# Altium schematic symbol library TexasInstrumentsG.SchLib: 9 symbols
Pins are listed as number, name and electrical type; pins without a type are passive.

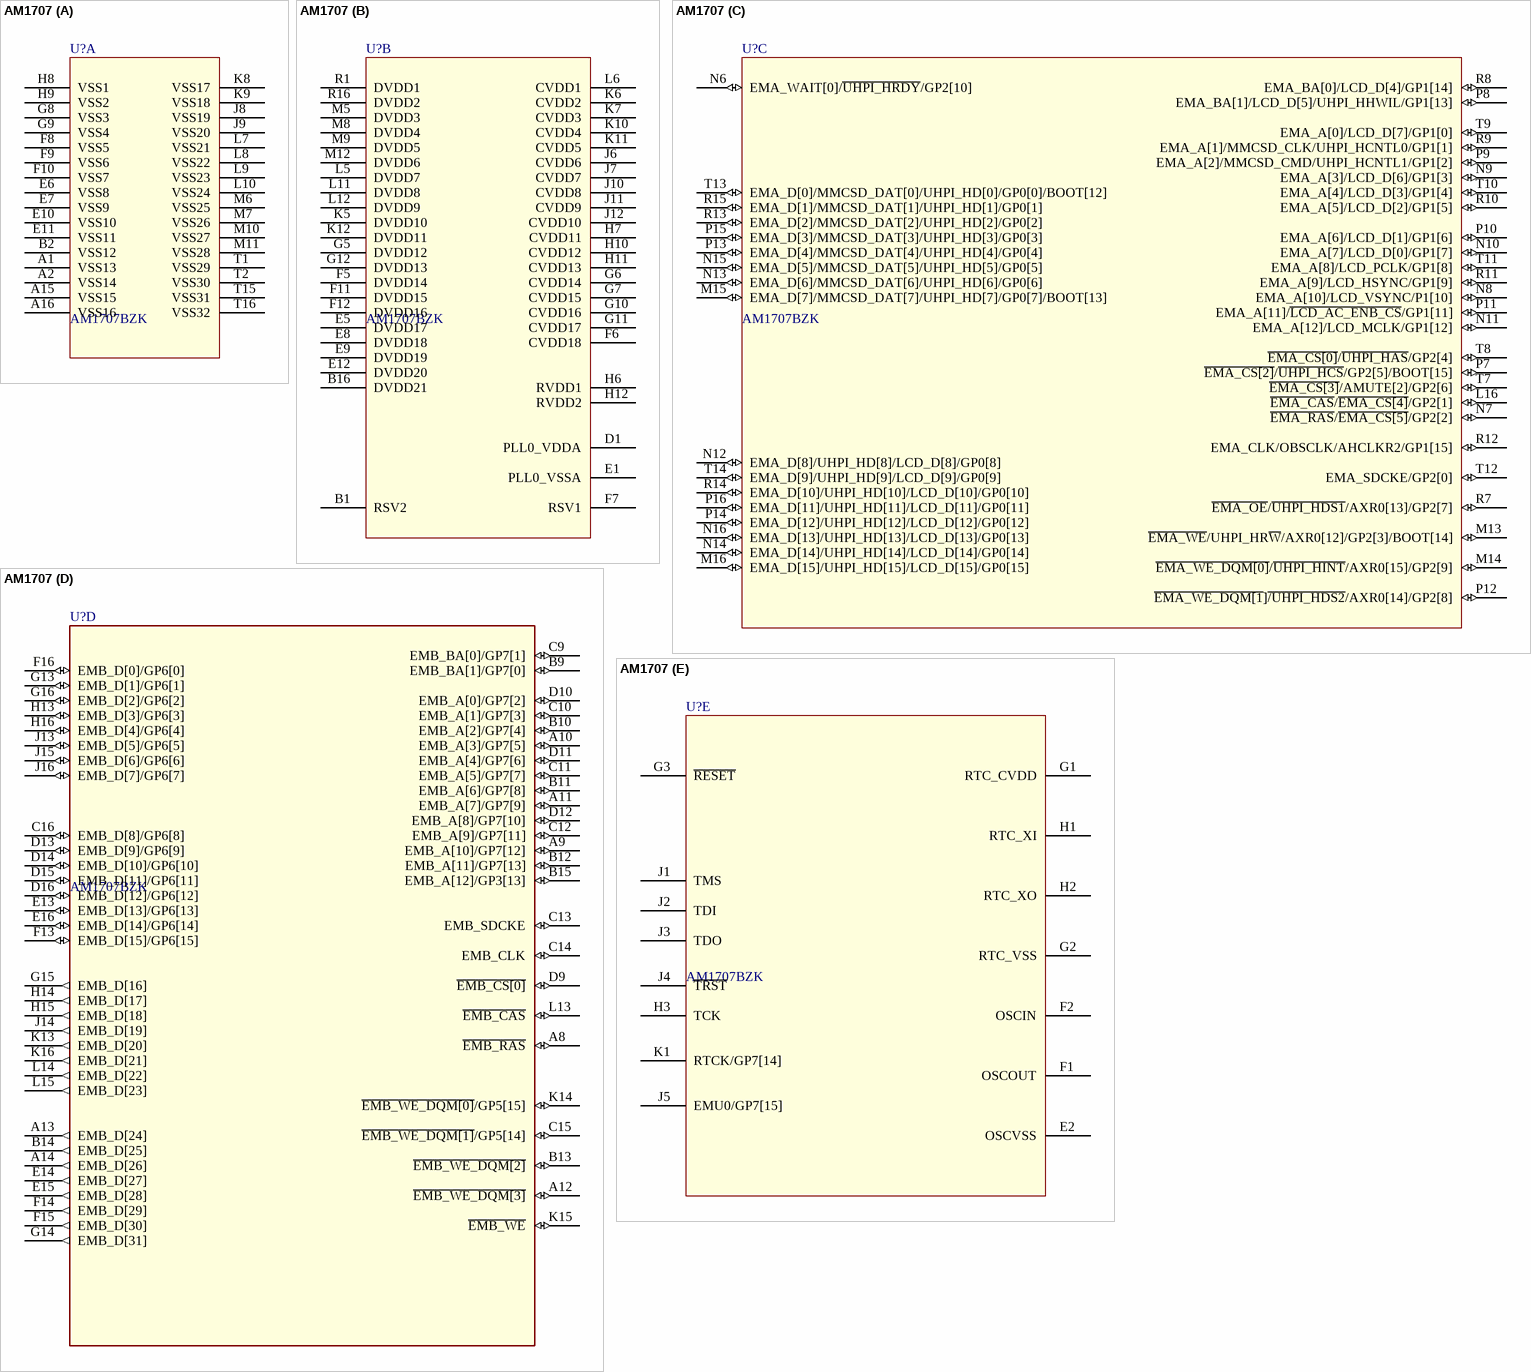
[diagram p0: symbol AM1707]

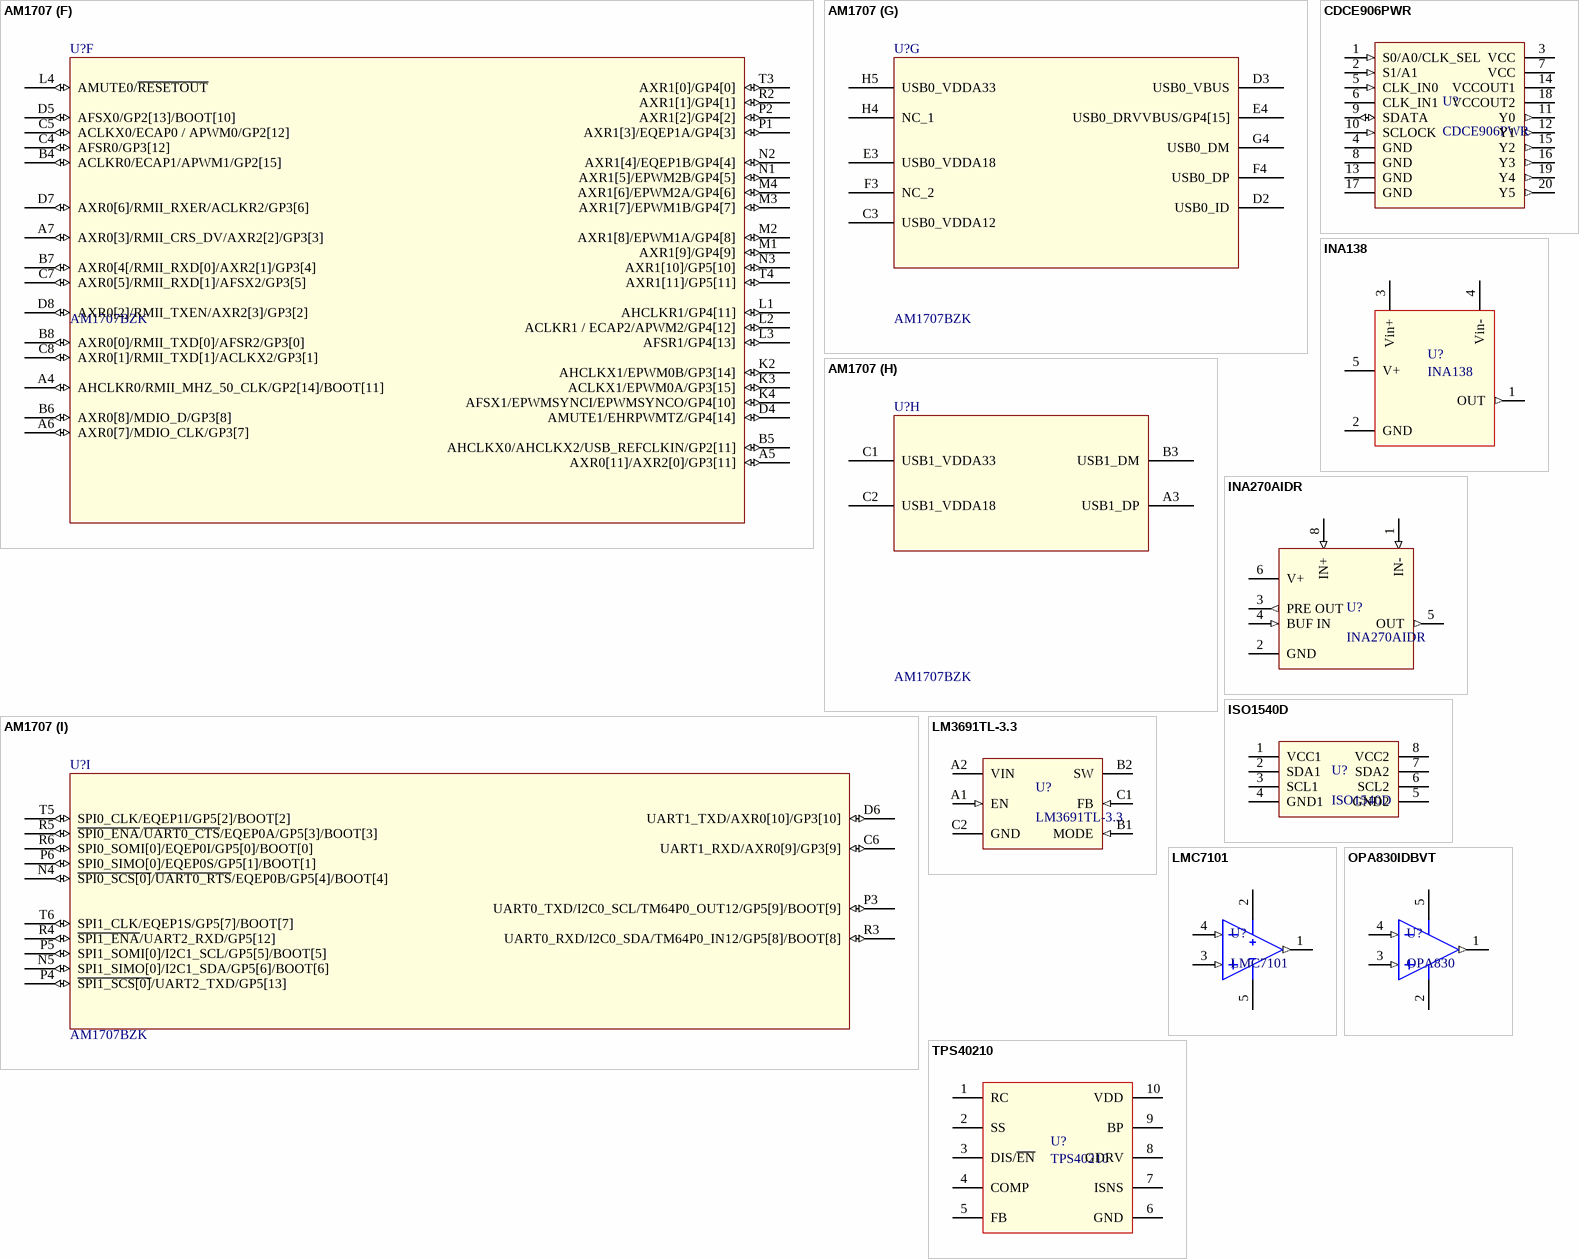
[diagram p1: symbols AM1707 to TPS40210]

## AM1707
designator U?, comment AM1707BZK
footprint C6747
part A pins: A1 VSS13 (power), A2 VSS14 (power), A15 VSS15 (power), A16 VSS16 (power), B2 VSS12 (power), E6 VSS8 (power), E7 VSS9 (power), E10 VSS10 (power), E11 VSS11 (power), F8 VSS5 (power), F9 VSS6 (power), F10 VSS7 (power), G8 VSS3 (power), G9 VSS4 (power), H8 VSS1 (power), H9 VSS2 (power), J8 VSS19 (power), J9 VSS20 (power), K8 VSS17 (power), K9 VSS18 (power), L7 VSS21 (power), L8 VSS22 (power), L9 VSS23 (power), L10 VSS24 (power), M6 VSS25 (power), M7 VSS26 (power), M10 VSS27 (power), M11 VSS28 (power), T1 VSS29 (power), T2 VSS30 (power), T15 VSS31 (power), T16 VSS32 (power)
part B pins: B1 RSV2, B16 DVDD21 (power), D1 PLL0_VDDA, E1 PLL0_VSSA, E5 DVDD17 (power), E8 DVDD18 (power), E9 DVDD19 (power), E12 DVDD20 (power), F5 DVDD14 (power), F6 CVDD18 (power), F7 RSV1, F11 DVDD15 (power), F12 DVDD16 (power), G5 DVDD12 (power), G6 CVDD14 (power), G7 CVDD15 (power), G10 CVDD16 (power), G11 CVDD17 (power), G12 DVDD13 (power), H6 RVDD1 (power), H7 CVDD11 (power), H10 CVDD12 (power), H11 CVDD13 (power), H12 RVDD2 (power), J6 CVDD6 (power), J7 CVDD7 (power), J10 CVDD8 (power), J11 CVDD9 (power), J12 CVDD10 (power), K5 DVDD10 (power), K6 CVDD2 (power), K7 CVDD3 (power), K10 CVDD4 (power), K11 CVDD5 (power), K12 DVDD11 (power), L5 DVDD7 (power), L6 CVDD1 (power), L11 DVDD8 (power), L12 DVDD9 (power), M5 DVDD3 (power), M8 DVDD4 (power), M9 DVDD5 (power), M12 DVDD6 (power), R1 DVDD1 (power), R16 DVDD2 (power)
part C pins: L16 ~{EMA_CAS}/~{EMA_CS[4]}/GP2[1] (io), M13 ~{EMA_WE}/UHPI_HR~{W}/AXR0[12]/GP2[3]/BOOT[14] (io), M14 ~{EMA_WE_DQM[0]}/~{UHPI_HINT}/AXR0[15]/GP2[9] (io), M15 EMA_D[7]/MMCSD_DAT[7]/UHPI_HD[7]/GP0[7]/BOOT[13] (io), M16 EMA_D[15]/UHPI_HD[15]/LCD_D[15]/GP0[15] (io), N6 EMA_WAIT[0]/~{UHPI_HRDY}/GP2[10] (io), N7 ~{EMA_RAS}/~{EMA_CS[5]}/GP2[2] (io), N8 EMA_A[10]/LCD_VSYNC/P1[10] (io), N9 EMA_A[3]/LCD_D[6]/GP1[3] (io), N10 EMA_A[7]/LCD_D[0]/GP1[7] (io), N11 EMA_A[12]/LCD_MCLK/GP1[12] (io), N12 EMA_D[8]/UHPI_HD[8]/LCD_D[8]/GP0[8] (io), N13 EMA_D[6]/MMCSD_DAT[6]/UHPI_HD[6]/GP0[6] (io), N14 EMA_D[14]/UHPI_HD[14]/LCD_D[14]/GP0[14] (io), N15 EMA_D[5]/MMCSD_DAT[5]/UHPI_HD[5]/GP0[5] (io), N16 EMA_D[13]/UHPI_HD[13]/LCD_D[13]/GP0[13] (io), P7 ~{EMA_CS[2]}/~{UHPI_HCS}/GP2[5]/BOOT[15] (io), P8 EMA_BA[1]/LCD_D[5]/UHPI_HHWIL/GP1[13] (io), P9 EMA_A[2]/MMCSD_CMD/UHPI_HCNTL1/GP1[2] (io), P10 EMA_A[6]/LCD_D[1]/GP1[6] (io), P11 EMA_A[11]/~{LCD_AC_ENB_CS}/GP1[11] (io), P12 ~{EMA_WE_DQM[1}]~{/UHPI_HDS2}/AXR0[14]/GP2[8] (io), P13 EMA_D[4]/MMCSD_DAT[4]/UHPI_HD[4]/GP0[4] (io), P14 EMA_D[12]/UHPI_HD[12]/LCD_D[12]/GP0[12] (io), P15 EMA_D[3]/MMCSD_DAT[3]/UHPI_HD[3]/GP0[3] (io), P16 EMA_D[11]/UHPI_HD[11]/LCD_D[11]/GP0[11] (io), R7 ~{EMA_OE}/~{UHPI_HDS1}/AXR0[13]/GP2[7] (io), R8 EMA_BA[0]/LCD_D[4]/GP1[14] (io), R9 EMA_A[1]/MMCSD_CLK/UHPI_HCNTL0/GP1[1] (io), R10 EMA_A[5]/LCD_D[2]/GP1[5] (io), R11 EMA_A[9]/LCD_HSYNC/GP1[9] (io), R12 EMA_CLK/OBSCLK/AHCLKR2/GP1[15] (io), R13 EMA_D[2]/MMCSD_DAT[2]/UHPI_HD[2]/GP0[2] (io), R14 EMA_D[10]/UHPI_HD[10]/LCD_D[10]/GP0[10] (io), R15 EMA_D[1]/MMCSD_DAT[1]/UHPI_HD[1]/GP0[1] (io), T7 ~{EMA_CS[3]}/AMUTE[2]/GP2[6] (io), T8 ~{EMA_CS[0]}/~{UHPI_HAS}/GP2[4] (io), T9 EMA_A[0]/LCD_D[7]/GP1[0] (io), T10 EMA_A[4]/LCD_D[3]/GP1[4] (io), T11 EMA_A[8]/LCD_PCLK/GP1[8] (io), T12 EMA_SDCKE/GP2[0] (io), T13 EMA_D[0]/MMCSD_DAT[0]/UHPI_HD[0]/GP0[0]/BOOT[12] (io), T14 EMA_D[9]/UHPI_HD[9]/LCD_D[9]/GP0[9] (io)
part D pins: A8 ~{EMB_RAS} (io), A9 EMB_A[10]/GP7[12] (io), A10 EMB_A[3]/GP7[5] (io), A11 EMB_A[7]/GP7[9] (io), A12 ~{EMB_WE_DQM[3]} (io), A13 EMB_D[24] (out), A14 EMB_D[26] (out), B9 EMB_BA[1]/GP7[0] (io), B10 EMB_A[2]/GP7[4] (io), B11 EMB_A[6]/GP7[8] (io), B12 EMB_A[11]/GP7[13] (io), B13 ~{EMB_WE_DQM[2]} (io), B14 EMB_D[25] (out), B15 EMB_A[12]/GP3[13] (io), C9 EMB_BA[0]/GP7[1] (io), C10 EMB_A[1]/GP7[3] (io), C11 EMB_A[5]/GP7[7] (io), C12 EMB_A[9]/GP7[11] (io), C13 EMB_SDCKE (io), C14 EMB_CLK (io), C15 ~{EMB_WE_DQM[1]}/GP5[14] (io), C16 EMB_D[8]/GP6[8] (io), D9 ~{EMB_CS[0]} (io), D10 EMB_A[0]/GP7[2] (io), D11 EMB_A[4]/GP7[6] (io), D12 EMB_A[8]/GP7[10] (io), D13 EMB_D[9]/GP6[9] (io), D14 EMB_D[10]/GP6[10] (io), D15 EMB_D[11]/GP6[11] (io), D16 EMB_D[12]/GP6[12] (io), E13 EMB_D[13]/GP6[13] (io), E14 EMB_D[27] (out), E15 EMB_D[28] (out), E16 EMB_D[14]/GP6[14] (io), F13 EMB_D[15]/GP6[15] (io), F14 EMB_D[29] (out), F15 EMB_D[30] (out), F16 EMB_D[0]/GP6[0] (io), G13 EMB_D[1]/GP6[1] (io), G14 EMB_D[31] (out), G15 EMB_D[16] (out), G16 EMB_D[2]/GP6[2] (io), H13 EMB_D[3]/GP6[3] (io), H14 EMB_D[17] (out), H15 EMB_D[18] (out), H16 EMB_D[4]/GP6[4] (io), J13 EMB_D[5]/GP6[5] (io), J14 EMB_D[19] (out), J15 EMB_D[6]/GP6[6] (io), J16 EMB_D[7]/GP6[7] (io), K13 EMB_D[20] (out), K14 ~{EMB_WE_DQM[0]}/GP5[15] (io), K15 ~{EMB_WE} (io), K16 EMB_D[21] (out), L13 ~{EMB_CAS} (io), L14 EMB_D[22] (out), L15 EMB_D[23] (out)
part E pins: E2 OSCVSS, F1 OSCOUT, F2 OSCIN, G1 RTC_CVDD, G2 RTC_VSS, G3 ~{RESET}, H1 RTC_XI, H2 RTC_XO, H3 TCK, J1 TMS, J2 TDI, J3 TDO, J4 ~{TRST}, J5 EMU0/GP7[15], K1 RTCK/GP7[14]
part F pins: A4 AHCLKR0/RMII_MHZ_50_CLK/GP2[14]/BOOT[11] (io), A5 AXR0[11]/AXR2[0]/GP3[11] (io), A6 AXR0[7]/MDIO_CLK/GP3[7] (io), A7 AXR0[3]/RMII_CRS_DV/AXR2[2]/GP3[3] (io), B4 ACLKR0/ECAP1/APWM1/GP2[15] (io), B5 AHCLKX0/AHCLKX2/USB_REFCLKIN/GP2[11] (io), B6 AXR0[8]/MDIO_D/GP3[8] (io), B7 AXR0[4[/RMII_RXD[0]/AXR2[1]/GP3[4] (io), B8 AXR0[0]/RMII_TXD[0]/AFSR2/GP3[0] (io), C4 AFSR0/GP3[12] (io), C5 ACLKX0/ECAP0 / APWM0/GP2[12] (io), C7 AXR0[5]/RMII_RXD[1]/AFSX2/GP3[5] (io), C8 AXR0[1]/RMII_TXD[1]/ACLKX2/GP3[1] (io), D4 AMUTE1/EHRPWMTZ/GP4[14] (io), D5 AFSX0/GP2[13]/BOOT[10] (io), D7 AXR0[6]/RMII_RXER/ACLKR2/GP3[6] (io), D8 AXR0[2]/RMII_TXEN/AXR2[3]/GP3[2] (io), K2 AHCLKX1/EPWM0B/GP3[14] (io), K3 ACLKX1/EPWM0A/GP3[15] (io), K4 AFSX1/EPWMSYNCI/EPWMSYNCO/GP4[10] (io), L1 AHCLKR1/GP4[11] (io), L2 ACLKR1 / ECAP2/APWM2/GP4[12] (io), L3 AFSR1/GP4[13] (io), L4 AMUTE0/~{RESETOUT} (io), M1 AXR1[9]/GP4[9] (io), M2 AXR1[8]/EPWM1A/GP4[8] (io), M3 AXR1[7]/EPWM1B/GP4[7] (io), M4 AXR1[6]/EPWM2A/GP4[6] (io), N1 AXR1[5]/EPWM2B/GP4[5] (io), N2 AXR1[4]/EQEP1B/GP4[4] (io), N3 AXR1[10]/GP5[10] (io), P1 AXR1[3]/EQEP1A/GP4[3] (io), P2 AXR1[2]/GP4[2] (io), R2 AXR1[1]/GP4[1] (io), T3 AXR1[0]/GP4[0] (io), T4 AXR1[11]/GP5[11] (io)
part G pins: C3 USB0_VDDA12, D2 USB0_ID, D3 USB0_VBUS, E3 USB0_VDDA18, E4 USB0_DRVVBUS/GP4[15], F3 NC_2, F4 USB0_DP, G4 USB0_DM, H4 NC_1, H5 USB0_VDDA33
part H pins: A3 USB1_DP, B3 USB1_DM, C1 USB1_VDDA33, C2 USB1_VDDA18
part I pins: C6 UART1_RXD/AXR0[9]/GP3[9] (io), D6 UART1_TXD/AXR0[10]/GP3[10] (io), N4 ~{SPI0_SCS[0]}/~{UART0_RTS}/EQEP0B/GP5[4]/BOOT[4] (io), N5 SPI1_SIMO[0]/I2C1_SDA/GP5[6]/BOOT[6] (io), P3 UART0_TXD/I2C0_SCL/TM64P0_OUT12/GP5[9]/BOOT[9] (io), P4 ~{SPI1_SCS[0]}/UART2_TXD/GP5[13] (io), P5 SPI1_SOMI[0]/I2C1_SCL/GP5[5]/BOOT[5] (io), P6 SPI0_SIMO[0]/EQEP0S/GP5[1]/BOOT[1] (io), R3 UART0_RXD/I2C0_SDA/TM64P0_IN12/GP5[8]/BOOT[8] (io), R4 ~{SPI1_ENA}/UART2_RXD/GP5[12] (io), R5 ~{SPI0_ENA}/~{UART0_CTS}/EQEP0A/GP5[3]/BOOT[3] (io), R6 SPI0_SOMI[0]/EQEP0I/GP5[0]/BOOT[0] (io), T5 SPI0_CLK/EQEP1I/GP5[2]/BOOT[2] (io), T6 SPI1_CLK/EQEP1S/GP5[7]/BOOT[7] (io)

## CDCE906PWR
designator U?
Programmable 3-PLL clock synthesizer; Supplier 1: Digi-Key; Supplier Part Number 1: 296-26038-1-ND
footprint PW020 (Shrink Small Outline; 20 Leads; Body Width 4.4 mm; Pitch 0.65 mm)
pins: 1 S0/A0/CLK_SEL (in), 2 S1/A1 (in), 3 VCC (power), 4 GND (power), 5 CLK_IN0 (in), 6 CLK_IN1, 7 VCC (power), 8 GND (power), 9 SDATA (io), 10 SCLOCK (in), 11 Y0 (out), 12 Y1 (out), 13 GND (power), 14 VCCOUT1 (power), 15 Y2 (out), 16 Y3 (out), 17 GND (power), 18 VCCOUT2 (power), 19 Y4 (out), 20 Y5 (out)

## INA138
designator U?
footprint SOT23-5AN (SOT23, 5-Leads, Body 2.9x1.6mm, Pitch 0.95mm, Lead Span 2.8mm, IPC Medium Density)
pins: 1 OUT (out), 2 GND (power), 3 Vin+, 4 Vin-, 5 V+ (power)

## INA270AIDR
designator U?
Current-shunt monitor
footprint SOIC127P600-8N (SOIC, 8-Leads, Body 4.9x3.9mm, Pitch 1.27mm, IPC Medium Density)
pins: 1 IN- (in), 2 GND (power), 3 PRE OUT (out), 4 BUF IN (in), 5 OUT (out), 6 V+ (power), 8 IN+ (in)

## ISO1540D
designator U?
footprint SO8 (Small Outline; 8 Leads; Body Width 3.9 mm; Pitch 1.27 mm)
pins: 1 VCC1, 2 SDA1, 3 SCL1, 4 GND1, 5 GND2, 6 SCL2, 7 SDA2, 8 VCC2

## LM3691TL-3.3
designator U?
Supplier Part Number 1: LM3691TL-3.3/NOPBCT-ND
footprint YZR0006 (6-DSBGA)
pins: A1 EN (in), A2 VIN (power), B1 MODE (in), B2 SW, C1 FB (in), C2 GND (power)

## LMC7101
designator U?
Wideband operational amplifier
footprint SOT23-5AN (SOT23, 5-Leads, Body 2.9x1.6mm, Pitch 0.95mm, Lead Span 2.8mm, IPC Medium Density)
pins: 1 OUT (out), 2 V+ (power), 3 IN+ (in), 4 IN- (in), 5 V- (power)

## OPA830IDBVT
designator U?, comment OPA830
Wideband operational amplifier
footprint DBV005 (SOT-23/SC-74A; 5 Leads; Body 3 x 3 mm, inc. leads (LxW max))
pins: 1 OUT (out), 2 V- (power), 3 IN+ (in), 4 IN- (in), 5 V+ (power)

## TPS40210
designator U?
pins: 1 RC, 2 SS, 3 DIS/~{EN}, 4 COMP, 5 FB, 6 GND, 7 ISNS, 8 GDRV, 9 BP, 10 VDD